# EAGLE library part HE910 (library telit-modules)
Telit HE910
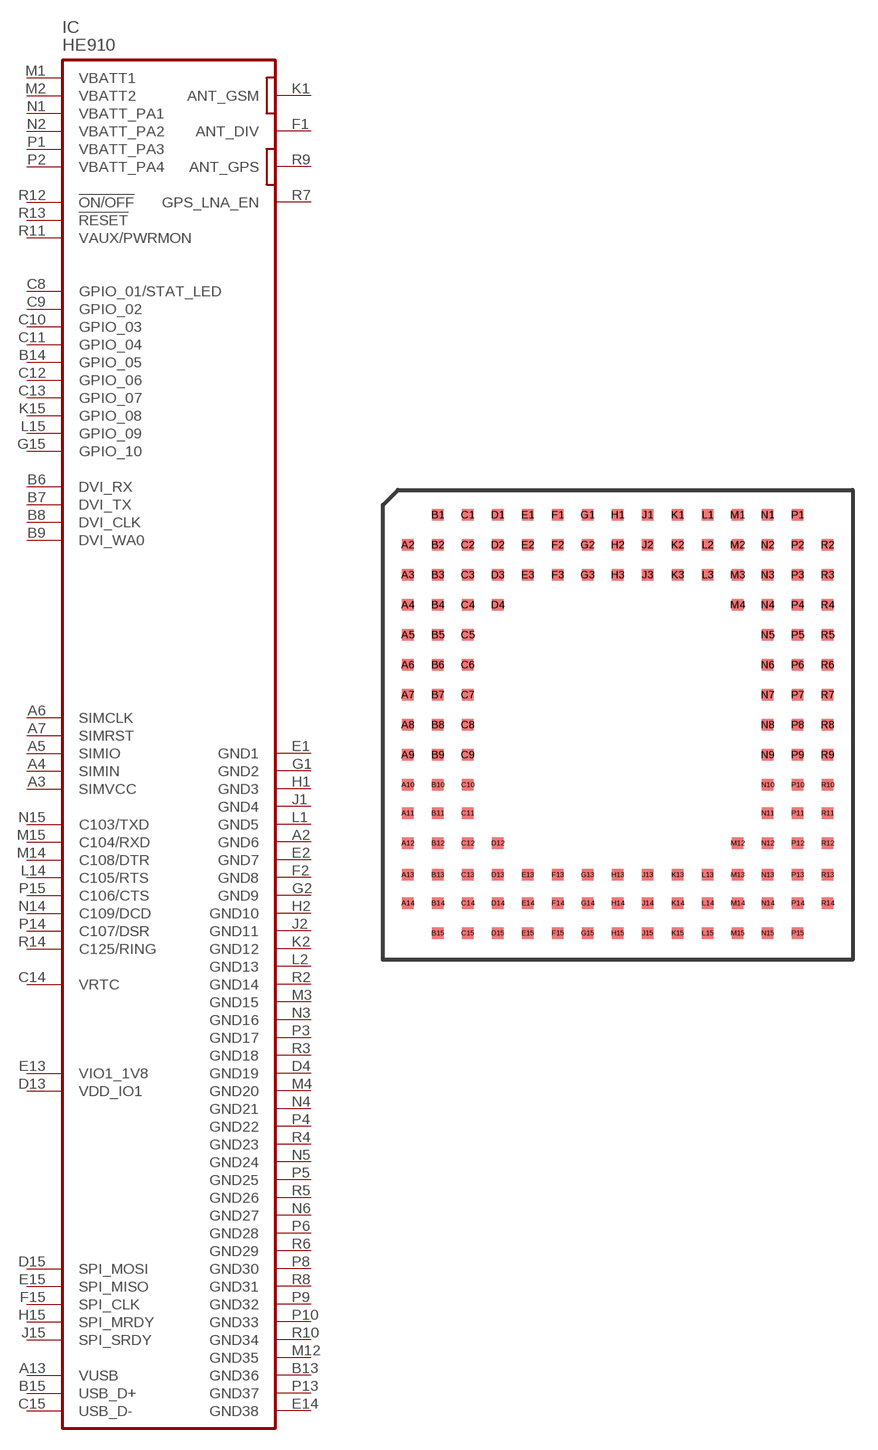
[diagram p9: symbol with the pads of HE910; footprint HE910]

Designator prefix IC

## HE910  [HE910]
A2  GND6  pwr
A3  SIMVCC  pas
A4  SIMIN  in
A5  SIMIO
A6  SIMCLK  out
A7  SIMRST  out
A13  VUSB  in
B6  DVI_RX
B7  DVI_TX
B8  DVI_CLK
B9  DVI_WA0
B13  GND36  pwr
B14  GPIO_05
B15  USB_D+
C8  GPIO_01/STAT_LED
C9  GPIO_02
C10  GPIO_03
C11  GPIO_04
C12  GPIO_06
C13  GPIO_07
C14  VRTC  pas
C15  USB_D-
D4  GND19  pwr
D13  VDD_IO1  in
D15  SPI_MOSI  in
E1  GND1  pwr
E2  GND7  pwr
E13  VIO1_1V8  out
E14  GND38  pwr
E15  SPI_MISO  out
F1  ANT_DIV  in
F2  GND8  pwr
F15  SPI_CLK  in
G1  GND2  pwr
G2  GND9  pwr
G15  GPIO_10
H1  GND3  pwr
H2  GND10  pwr
H15  SPI_MRDY  in
J1  GND4  pwr
J2  GND11  pwr
J15  SPI_SRDY  out
K1  ANT_GSM
K2  GND12  pwr
K15  GPIO_08
L1  GND5  pwr
L2  GND13  pwr
L14  C105/RTS  in
L15  GPIO_09
M1  VBATT1  pwr
M2  VBATT2  pwr
M3  GND15  pwr
M4  GND20  pwr
M12  GND35  pwr
M14  C108/DTR  in
M15  C104/RXD  out
N1  VBATT_PA1  pwr
N2  VBATT_PA2  pwr
N3  GND16  pwr
N4  GND21  pwr
N5  GND24  pwr
N6  GND27  pwr
N14  C109/DCD  out
N15  C103/TXD  in
P1  VBATT_PA3  pwr
P2  VBATT_PA4  pwr
P3  GND17  pwr
P4  GND22  pwr
P5  GND25  pwr
P6  GND28  pwr
P8  GND30  pwr
P9  GND32  pwr
P10  GND33  pwr
P13  GND37  pwr
P14  C107/DSR  out
P15  C106/CTS  out
R2  GND14  pwr
R3  GND18  pwr
R4  GND23  pwr
R5  GND26  pwr
R6  GND29  pwr
R7  GPS_LNA_EN  out
R8  GND31  pwr
R9  ANT_GPS  in
R10  GND34  pwr
R11  VAUX/PWRMON
R12  !ON/OFF  in
R13  !RESET  in
R14  C125/RING  out

## Footprint HE910 (pad centres in mm)
smd 0.7 x 0.7: A2 -12.6,10.8; A3 -12.6,9; A4 -12.6,7.2; A5 -12.6,5.4; A6 -12.6,3.6; A7 -12.6,1.8; A8 -12.6,0; A9 -12.6,-1.8; A10 -12.6,-3.6; A11 -12.6,-5.3; A12 -12.6,-7.1; A13 -12.6,-9; A14 -12.6,-10.7; B1 -10.8,12.6; B2 -10.8,10.8; B3 -10.8,9; B4 -10.8,7.2; B5 -10.8,5.4; B6 -10.8,3.6; B7 -10.8,1.8; B8 -10.8,0; B9 -10.8,-1.8; B10 -10.8,-3.6; B11 -10.8,-5.3; B12 -10.8,-7.1; B13 -10.8,-9; B14 -10.8,-10.7; B15 -10.8,-12.5; C1 -9,12.6; C2 -9,10.8; C3 -9,9; C4 -9,7.2; C5 -9,5.4; C6 -9,3.6; C7 -9,1.8; C8 -9,0; C9 -9,-1.8; C10 -9,-3.6; C11 -9,-5.3; C12 -9,-7.1; C13 -9,-9; C14 -9,-10.7; C15 -9,-12.5; D1 -7.2,12.6; D2 -7.2,10.8; D3 -7.2,9; D4 -7.2,7.2; D12 -7.2,-7.1; D13 -7.2,-9; D14 -7.2,-10.7; D15 -7.2,-12.5; E1 -5.4,12.6; E2 -5.4,10.8; E3 -5.4,9; E13 -5.4,-9; E14 -5.4,-10.7; E15 -5.4,-12.5; F1 -3.6,12.6; F2 -3.6,10.8; F3 -3.6,9; F13 -3.6,-9; F14 -3.6,-10.7; F15 -3.6,-12.5; G1 -1.8,12.6; G2 -1.8,10.8; G3 -1.8,9; G13 -1.8,-9; G14 -1.8,-10.7; G15 -1.8,-12.5; H1 0,12.6; H2 0,10.8; H3 0,9; H13 0,-9; H14 0,-10.7; H15 0,-12.5; J1 1.8,12.6; J2 1.8,10.8; J3 1.8,9; J13 1.8,-9; J14 1.8,-10.7; J15 1.8,-12.5; K1 3.6,12.6; K2 3.6,10.8; K3 3.6,9; K13 3.6,-9; K14 3.6,-10.7; K15 3.6,-12.5; L1 5.4,12.6; L2 5.4,10.8; L3 5.4,9; L13 5.4,-9; L14 5.4,-10.7; L15 5.4,-12.5; M1 7.2,12.6; M2 7.2,10.8; M3 7.2,9; M4 7.2,7.2; M12 7.2,-7.1; M13 7.2,-9; M14 7.2,-10.7; M15 7.2,-12.5; N1 9,12.6; N2 9,10.8; N3 9,9; N4 9,7.2; N5 9,5.4; N6 9,3.6; N7 9,1.8; N8 9,0; N9 9,-1.8; N10 9,-3.6; N11 9,-5.3; N12 9,-7.1; N13 9,-9; N14 9,-10.7; N15 9,-12.5; P1 10.8,12.6; P2 10.8,10.8; P3 10.8,9; P4 10.8,7.2; P5 10.8,5.4; P6 10.8,3.6; P7 10.8,1.8; P8 10.8,0; P9 10.8,-1.8; P10 10.8,-3.6; P11 10.8,-5.3; P12 10.8,-7.1; P13 10.8,-9; P14 10.8,-10.7; P15 10.8,-12.5; R2 12.6,10.8; R3 12.6,9; R4 12.6,7.2; R5 12.6,5.4; R6 12.6,3.6; R7 12.6,1.8; R8 12.6,0; R9 12.6,-1.8; R10 12.6,-3.6; R11 12.6,-5.3; R12 12.6,-7.1; R13 12.6,-9; R14 12.6,-10.7